# Altium schematic symbol library Schlib1.SchLib: 1 symbol
Pins are listed as number, name and electrical type; pins without a type are passive.

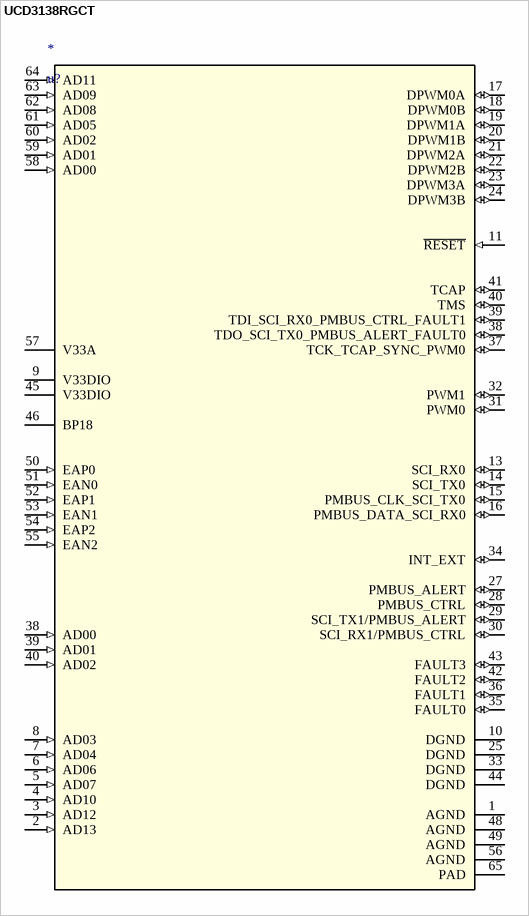
[diagram p0: symbol UCD3138RGCT]

## UCD3138RGCT
designator *, comment u?
UCD3138 64Pins
pins: 1 AGND (power), 2 AD13 (in), 3 AD12 (in), 4 AD10 (in), 5 AD07 (in), 6 AD06 (in), 7 AD04 (in), 8 AD03 (in), 9 V33DIO (power), 10 DGND (power), 11 ~{RESET} (in), 13 SCI_RX0 (io), 14 SCI_TX0 (io), 15 PMBUS_CLK_SCI_TX0 (io), 16 PMBUS_DATA_SCI_RX0 (io), 17 DPWM0A (io), 18 DPWM0B (io), 19 DPWM1A (io), 20 DPWM1B (io), 21 DPWM2A (io), 22 DPWM2B (io), 23 DPWM3A (io), 24 DPWM3B (io), 25 DGND (power), 27 PMBUS_ALERT (io), 28 PMBUS_CTRL (io), 29 SCI_TX1/PMBUS_ALERT (io), 30 SCI_RX1/PMBUS_CTRL (io), 31 PWM0 (io), 32 PWM1 (io), 33 DGND (power), 34 INT_EXT (io), 35 FAULT0 (io), 36 FAULT1 (io), 37 TCK_TCAP_SYNC_PWM0 (io), 38 TDO_SCI_TX0_PMBUS_ALERT_FAULT0 (io), 38 AD00 (in), 39 TDI_SCI_RX0_PMBUS_CTRL_FAULT1 (io), 39 AD01 (in), 40 TMS (io), 40 AD02 (in), 41 TCAP (io), 42 FAULT2 (io), 43 FAULT3 (io), 44 DGND (power), 45 V33DIO (power), 46 BP18 (power), 48 AGND (power), 49 AGND (power), 50 EAP0 (in), 51 EAN0 (in), 52 EAP1 (in), 53 EAN1 (in), 54 EAP2 (in), 55 EAN2 (in), 56 AGND (power), 57 V33A (power), 58 AD00 (in), 59 AD01 (in), 60 AD02 (in), 61 AD05 (in), 62 AD08 (in), 63 AD09 (in), 64 AD11 (in), 65 PAD (power)